# Altium schematic symbol library nxp-linear.SchLib: 1 symbol
Pins are listed as number, name and electrical type; pins without a type are passive.

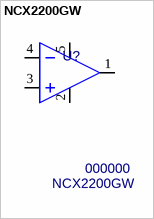
[diagram p0: symbol NCX2200GW]

## NCX2200GW
designator U?, comment 000000  value NCX2200GW
Low Voltage Comparator; MF PN: NCX2200GW,125; Package: 5-TSSOP; PN: 000000; ExtraInfo: *; Price: 0.13712; Digi-Key PN: 568-7526-1-ND
footprint SOT-353-M (SOT23, 5-Leads, Body 2.2x2.2mm (max), Pitch 0.65mm, IPC High Density)
pins: 1 OUT, 2 V- (power), 3 IN+, 4 IN-, 5 V+ (power)